# EAGLE library part SDCARD_SLOT (library PartsForProto)
SDカードスロット
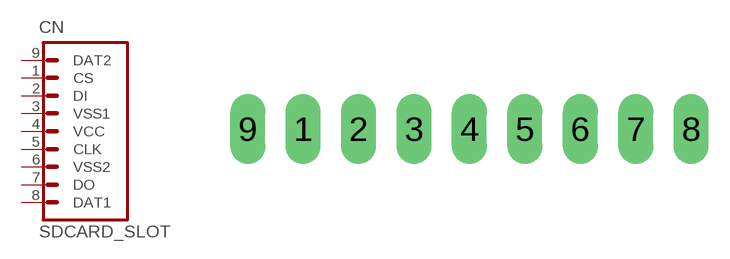
[diagram p0: symbol with the pads of SDCARD_SLOT; footprint SDCARD_SLOT]

Designator prefix CN

## SDCARD_SLOT  [SDCARD_SLOT]
1  CS
2  DI
3  VSS1  pas
4  VCC  pas
5  CLK
6  VSS2  pas
7  DO
8  DAT1
9  DAT2

## Footprint SDCARD_SLOT (pad centres in mm)
PIN HEADER for SDCARD SLOT
drill 1 pad 1.6 long: 1 2.54,0; 2 5.08,0; 3 7.62,0; 4 10.16,0; 5 12.7,0; 6 15.24,0; 7 17.78,0; 8 20.32,0; 9 0,0